# EAGLE library part 74HC4511 (library selfmade)
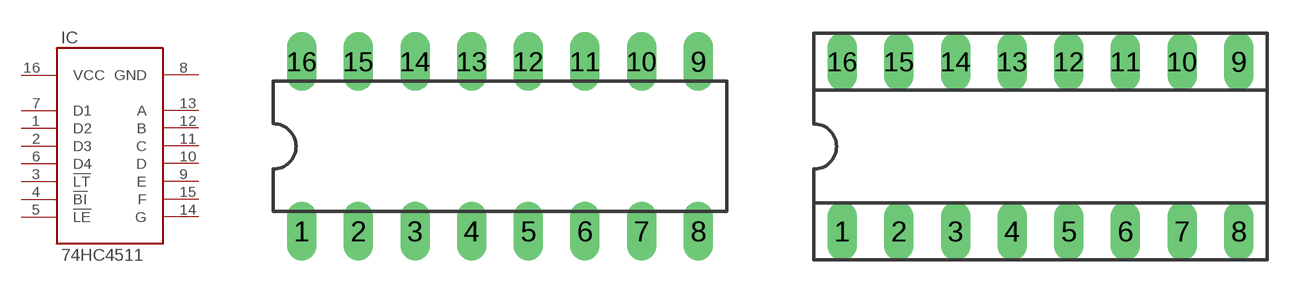
[diagram p5: symbol with the pads of DIL16; footprints DIL16, SOCKET-16]

Designator prefix IC

## 74HC4511DIL16  [DIL16]
1  D2  in
2  D3  in
3  !LT  in
4  !BI  in
5  !LE  in
6  D4  in
7  D1  in
8  GND  sup
9  E  out
10  D  out
11  C  out
12  B  out
13  A  out
14  G  out
15  F  out
16  VCC  sup

## 74HC4511SOCKET16, 74HC4511SOCKET16SOCKET16  [SOCKET-16]
Pads as for DIL16

## Footprint DIL16 (pad centres in mm)
Dual In Line Package
drill 0.813 long: 1 -8.89,-3.81; 2 -6.35,-3.81; 3 -3.81,-3.81; 4 -1.27,-3.81; 5 1.27,-3.81; 6 3.81,-3.81; 7 6.35,-3.81; 8 8.89,-3.81; 9 8.89,3.81; 10 6.35,3.81; 11 3.81,3.81; 12 1.27,3.81; 13 -1.27,3.81; 14 -3.81,3.81; 15 -6.35,3.81; 16 -8.89,3.81

## Footprint SOCKET-16 (pad centres in mm)
Dual In Line Socket
drill 0.813 long: 1 -8.89,-3.81; 2 -6.35,-3.81; 3 -3.81,-3.81; 4 -1.27,-3.81; 5 1.27,-3.81; 6 3.81,-3.81; 7 6.35,-3.81; 8 8.89,-3.81; 9 8.89,3.81; 10 6.35,3.81; 11 3.81,3.81; 12 1.27,3.81; 13 -1.27,3.81; 14 -3.81,3.81; 15 -6.35,3.81; 16 -8.89,3.81